# Altium footprint library display.PcbLib: 1 footprints
Each footprint in its own frame and in the unit in brackets; x right, y up, seen from the top. Pads: shape width x height; smd on the part's side, far side on the other; paste and mask are expansions set on the pad; w line width, h text height; cw(c..) or ccw(c..) is an arc to the next point about the centre after c.
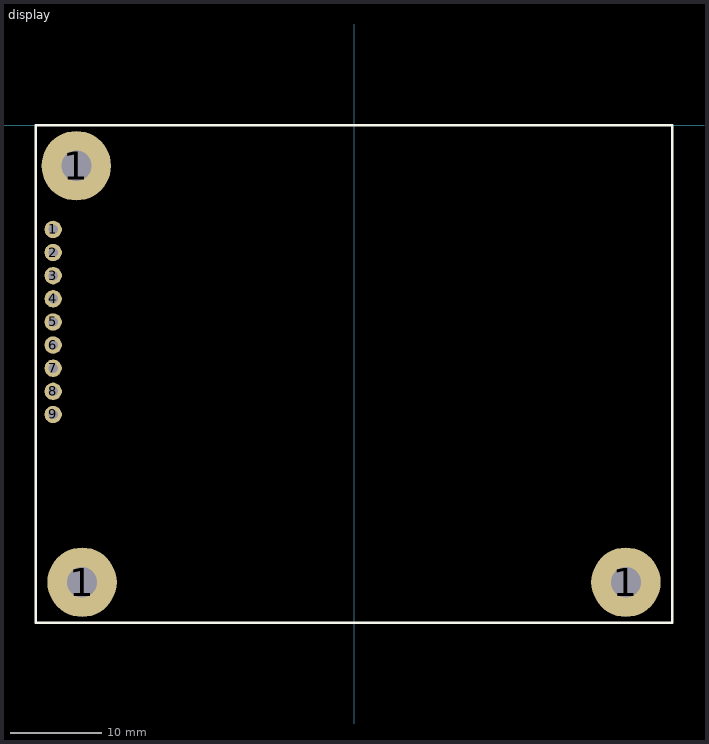
[diagram p0: the footprint, top view; thin cyan lines are the x and y axes]

## display [mil]
pads (12):
  round 75 hole 40: 1(-1300,-450) 2(-1300,-550) 3(-1300,-650) 4(-1300,-750) 5(-1300,-850) 6(-1300,-950) 7(-1300,-1050) 8(-1300,-1150) 9(-1300,-1250)
  round 300 hole 130: 1(-1200,-175) 1(-1175,-1975) 1(1175,-1975)
Top Overlay:
  lines w10: -1375,-2150 -1375,0 1375,0 1375,-2150 -1375,-2150
3D body: height 763.58, standoff 271.53, extent -1375,-2150 1375,0